# Altium footprint library Package_DFN_QFN_SON.PcbLib: 34 footprints (part 2 of 3)
Each footprint in its own frame and in the unit in brackets; x right, y up, seen from the top. Pads: shape width x height; smd on the part's side, far side on the other; paste and mask are expansions set on the pad; w line width, h text height; cw(c..) or ccw(c..) is an arc to the next point about the centre after c.
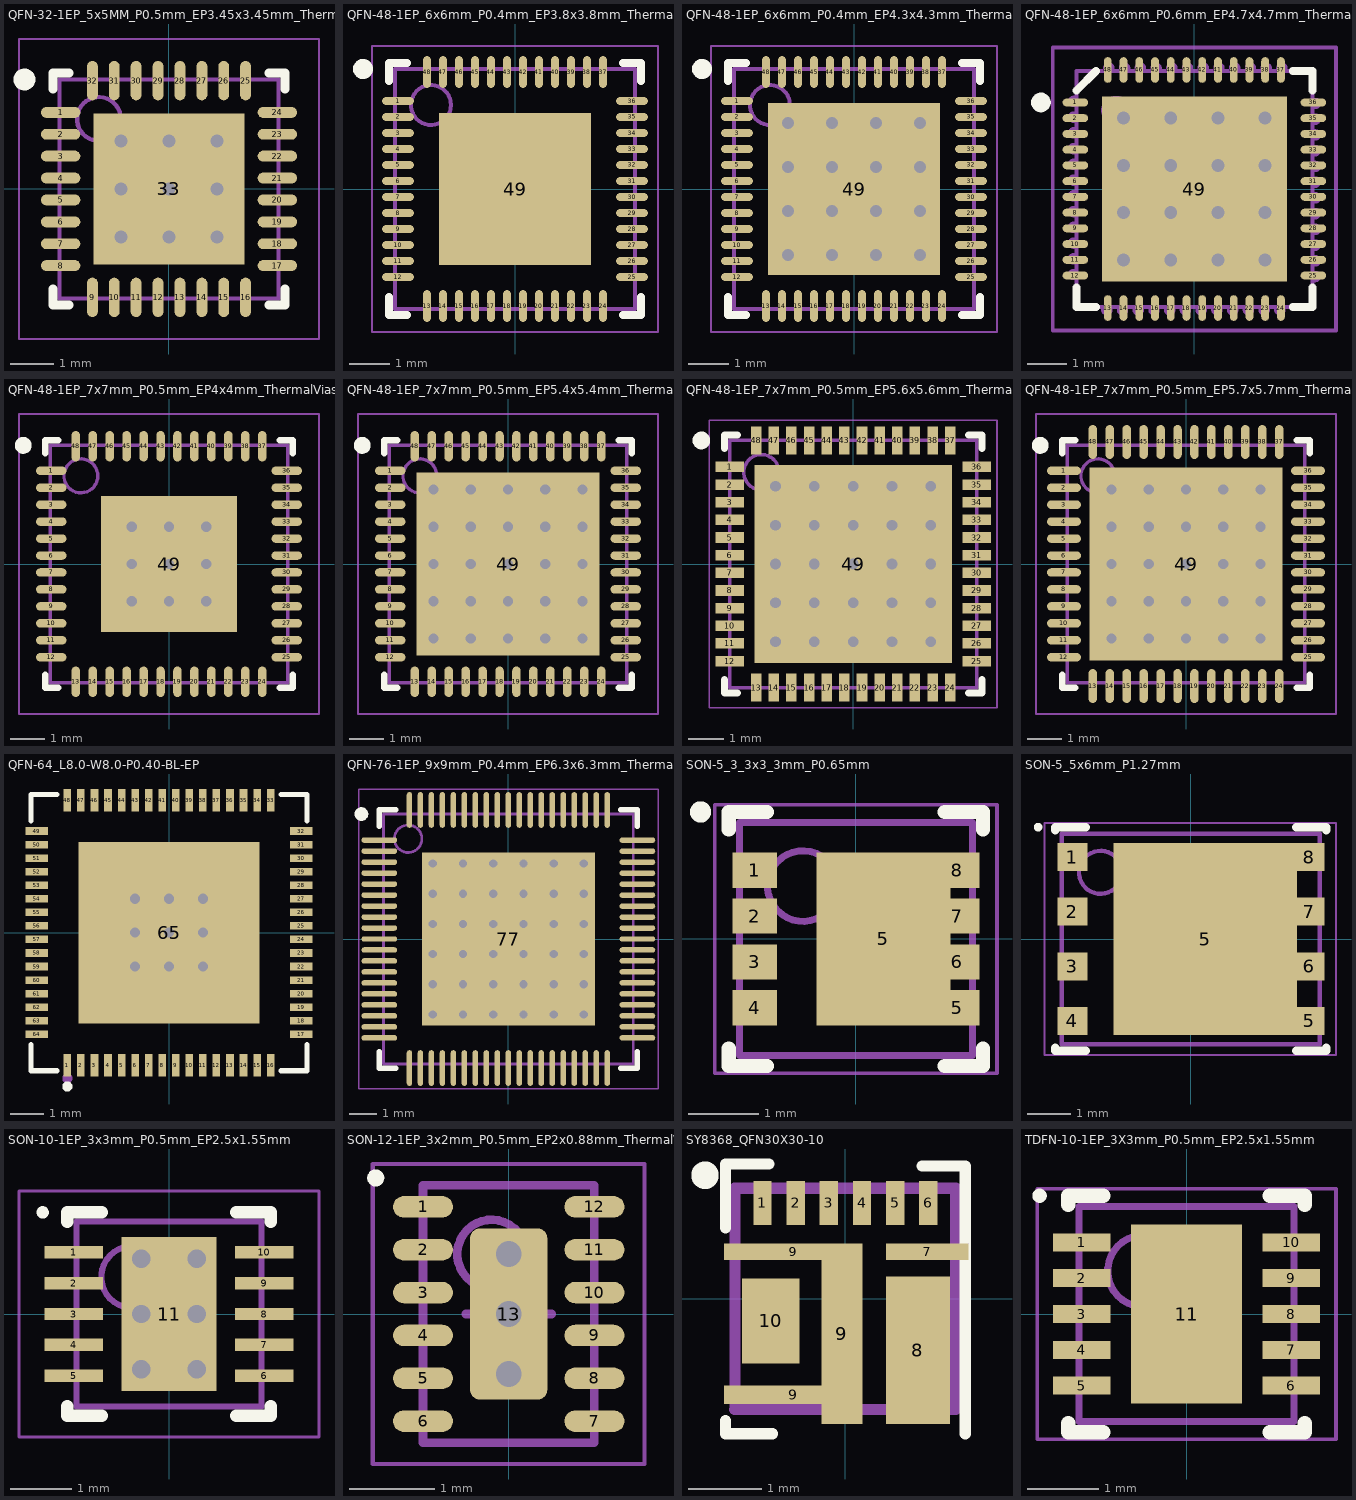
[diagram p1: the footprints below, top view; thin cyan lines are the x and y axes]

## QFN-32-1EP_5x5MM_P0.5mm_EP3.45x3.45mm_ThermalVias [mm] "QFN, 32-Leads, Body 5.00x5.00mm, Pitch 0.50mm, Thermal Pad 3.70x3.70mm, IPC Low Density"
height 0.8
pads (33):
  oval 0.9x0.25 smd: 1(-2.475,1.75) 2(-2.475,1.25) 3(-2.475,0.75) 4(-2.475,0.25) 5(-2.475,-0.25) 6(-2.475,-0.75) 7(-2.475,-1.25) 8(-2.475,-1.75) 17(2.475,-1.75) 18(2.475,-1.25) 19(2.475,-0.75) 20(2.475,-0.25) 21(2.475,0.25) 22(2.475,0.75) 23(2.475,1.25) 24(2.475,1.75)
  oval 0.25x0.9 smd: 9(-1.75,-2.475) 10(-1.25,-2.475) 11(-0.75,-2.475) 12(-0.25,-2.475) 13(0.25,-2.475) 14(0.75,-2.475) 15(1.25,-2.475) 16(1.75,-2.475) 25(1.75,2.475) 26(1.25,2.475) 27(0.75,2.475) 28(0.25,2.475) 29(-0.25,2.475) 30(-0.75,2.475) 31(-1.25,2.475) 32(-1.75,2.475)
  rect 3.45x3.45 smd: 33(0,0)
via -1.1,1.1 diameter 0.5 hole 0.3
via 0,1.1 diameter 0.5 hole 0.3
via 1.1,1.1 diameter 0.5 hole 0.3
via -1.1,0 diameter 0.5 hole 0.3
via 0,0 diameter 0.5 hole 0.3
via 1.1,0 diameter 0.5 hole 0.3
via -1.1,-1.1 diameter 0.5 hole 0.3
via 0,-1.1 diameter 0.5 hole 0.3
via 1.1,-1.1 diameter 0.5 hole 0.3
Top Overlay:
  circle w0.25: c-3.3,2.5 r0.125
  lines w0.2: -2.65,-2.275 -2.65,-2.65 -2.275,-2.65 ; -2.65,2.275 -2.65,2.65 -2.275,2.65 ; 2.275,-2.65 2.65,-2.65 2.65,-2.275 ; 2.275,2.65 2.65,2.65 2.65,2.275
Mechanical 13:
  circle w0.1: c-1.6,1.6 r0.5
  lines w0.1: -2.5,-2.5 -2.5,2.5 2.5,2.5 2.5,-2.5 -2.5,-2.5
Mechanical 15:
  lines w0.05: -3.425,-3.425 -3.425,3.425 3.425,3.425 3.425,-3.425 -3.425,-3.425
  lines w0.1: -0.5,0 0.5,0 ; 0,-0.5 0,0.5
3D body "QFN50P500X500X100_HS-33N.step": height 1, standoff 0, extent -2.55,-2.55 2.55,2.55

## QFN-48-1EP_6x6mm_P0.4mm_EP3.8x3.8mm_ThermalVias [mm] "QFN, 48-Leads, Body 6.00x6.00mm, Pitch 0.40mm, Thermal Pad 3.80x3.80mm, IPC Medium Density"
height 0.94
pads (49):
  oval 0.8x0.2 smd: 1(-2.925,2.2) 2(-2.925,1.8) 3(-2.925,1.4) 4(-2.925,1) 5(-2.925,0.6) 6(-2.925,0.2) 7(-2.925,-0.2) 8(-2.925,-0.6) 9(-2.925,-1) 10(-2.925,-1.4) 11(-2.925,-1.8) 12(-2.925,-2.2) 25(2.925,-2.2) 26(2.925,-1.8) 27(2.925,-1.4) 28(2.925,-1) 29(2.925,-0.6) 30(2.925,-0.2) 31(2.925,0.2) 32(2.925,0.6) 33(2.925,1) 34(2.925,1.4) 35(2.925,1.8) 36(2.925,2.2)
  oval 0.2x0.8 smd: 13(-2.2,-2.925) 14(-1.8,-2.925) 15(-1.4,-2.925) 16(-1,-2.925) 17(-0.6,-2.925) 18(-0.2,-2.925) 19(0.2,-2.925) 20(0.6,-2.925) 21(1,-2.925) 22(1.4,-2.925) 23(1.8,-2.925) 24(2.2,-2.925) 37(2.2,2.925) 38(1.8,2.925) 39(1.4,2.925) 40(1,2.925) 41(0.6,2.925) 42(0.2,2.925) 43(-0.2,2.925) 44(-0.6,2.925) 45(-1,2.925) 46(-1.4,2.925) 47(-1.8,2.925) 48(-2.2,2.925)
  rect 3.8x3.8 smd: 49(0,0)
Top Overlay:
  circle w0.25: c-3.8,3 r0.125
  lines w0.2: -3.15,-2.7 -3.15,-3.15 -2.7,-3.15 ; -3.15,2.7 -3.15,3.15 -2.7,3.15 ; 2.7,-3.15 3.15,-3.15 3.15,-2.7 ; 2.7,3.15 3.15,3.15 3.15,2.7
Mechanical 13:
  circle w0.1: c-2.1,2.1 r0.5
  lines w0.1: -3,-3 -3,3 3,3 3,-3 -3,-3
Mechanical 15:
  lines w0.05: -3.575,-3.575 -3.575,3.575 3.575,3.575 3.575,-3.575 -3.575,-3.575
  lines w0.1: -0.5,0 0.5,0 ; 0,-0.5 0,0.5
3D body "QFN40P600X600X94_HS-49N.step": height 0.94, standoff 0, extent -3.01,-3.01 3.01,3.01

## QFN-48-1EP_6x6mm_P0.4mm_EP4.3x4.3mm_ThermalVias [mm] "QFN, 48-Leads, Body 6.00x6.00mm, Pitch 0.40mm, Thermal Pad 4.30x4.30mm, IPC Medium Density"
height 0.94
pads (49):
  oval 0.8x0.2 smd: 1(-2.925,2.2) 2(-2.925,1.8) 3(-2.925,1.4) 4(-2.925,1) 5(-2.925,0.6) 6(-2.925,0.2) 7(-2.925,-0.2) 8(-2.925,-0.6) 9(-2.925,-1) 10(-2.925,-1.4) 11(-2.925,-1.8) 12(-2.925,-2.2) 25(2.925,-2.2) 26(2.925,-1.8) 27(2.925,-1.4) 28(2.925,-1) 29(2.925,-0.6) 30(2.925,-0.2) 31(2.925,0.2) 32(2.925,0.6) 33(2.925,1) 34(2.925,1.4) 35(2.925,1.8) 36(2.925,2.2)
  oval 0.2x0.8 smd: 13(-2.2,-2.925) 14(-1.8,-2.925) 15(-1.4,-2.925) 16(-1,-2.925) 17(-0.6,-2.925) 18(-0.2,-2.925) 19(0.2,-2.925) 20(0.6,-2.925) 21(1,-2.925) 22(1.4,-2.925) 23(1.8,-2.925) 24(2.2,-2.925) 37(2.2,2.925) 38(1.8,2.925) 39(1.4,2.925) 40(1,2.925) 41(0.6,2.925) 42(0.2,2.925) 43(-0.2,2.925) 44(-0.6,2.925) 45(-1,2.925) 46(-1.4,2.925) 47(-1.8,2.925) 48(-2.2,2.925)
  rect 4.3x4.3 smd: 49(0,0)
via 1.65,0.55 diameter 0.5 hole 0.3
via 0.55,0.55 diameter 0.5 hole 0.3
via -0.55,0.55 diameter 0.5 hole 0.3
via -1.65,0.55 diameter 0.5 hole 0.3
via 1.65,1.65 diameter 0.5 hole 0.3
via 0.55,1.65 diameter 0.5 hole 0.3
via -0.55,1.65 diameter 0.5 hole 0.3
via -1.65,1.65 diameter 0.5 hole 0.3
via 1.65,-1.65 diameter 0.5 hole 0.3
via 0.55,-1.65 diameter 0.5 hole 0.3
via -0.55,-1.65 diameter 0.5 hole 0.3
via -1.65,-1.65 diameter 0.5 hole 0.3
via 1.65,-0.55 diameter 0.5 hole 0.3
via 0.55,-0.55 diameter 0.5 hole 0.3
via -0.55,-0.55 diameter 0.5 hole 0.3
via -1.65,-0.55 diameter 0.5 hole 0.3
Top Overlay:
  circle w0.25: c-3.8,3 r0.125
  lines w0.2: -3.15,-2.7 -3.15,-3.15 -2.7,-3.15 ; -3.15,2.7 -3.15,3.15 -2.7,3.15 ; 2.7,-3.15 3.15,-3.15 3.15,-2.7 ; 2.7,3.15 3.15,3.15 3.15,2.7
Mechanical 13:
  circle w0.1: c-2.1,2.1 r0.5
  lines w0.1: -3,-3 -3,3 3,3 3,-3 -3,-3
Mechanical 15:
  lines w0.05: -3.575,-3.575 -3.575,3.575 3.575,3.575 3.575,-3.575 -3.575,-3.575
  lines w0.1: -0.5,0 0.5,0 ; 0,-0.5 0,0.5
3D body "QFN40P600X600X94_HS-49N.step": height 0.94, standoff 0, extent -3.01,-3.01 3.01,3.01

## QFN-48-1EP_6x6mm_P0.6mm_EP4.7x4.7mm_ThermalVias [mm]
pads (49):
  oval 0.65x0.2 smd mask+0.05: 1(-3.025,2.2) 2(-3.025,1.8) 3(-3.025,1.4) 4(-3.025,1) 5(-3.025,0.6) 6(-3.025,0.2) 7(-3.025,-0.2) 8(-3.025,-0.6) 9(-3.025,-1) 10(-3.025,-1.4) 11(-3.025,-1.8) 12(-3.025,-2.2) 25(3.025,-2.2) 26(3.025,-1.8) 27(3.025,-1.4) 28(3.025,-1) 29(3.025,-0.6) 30(3.025,-0.2) 31(3.025,0.2) 32(3.025,0.6) 33(3.025,1) 34(3.025,1.4) 35(3.025,1.8) 36(3.025,2.2)
  oval 0.2x0.65 smd mask+0.05: 13(-2.2,-3.025) 14(-1.8,-3.025) 15(-1.4,-3.025) 16(-1,-3.025) 17(-0.6,-3.025) 18(-0.2,-3.025) 19(0.2,-3.025) 20(0.6,-3.025) 21(1,-3.025) 22(1.4,-3.025) 23(1.8,-3.025) 24(2.2,-3.025) 37(2.2,3.025) 38(1.8,3.025) 39(1.4,3.025) 40(1,3.025) 41(0.6,3.025) 42(0.2,3.025) 43(-0.2,3.025) 44(-0.6,3.025) 45(-1,3.025) 46(-1.4,3.025) 47(-1.8,3.025) 48(-2.2,3.025)
  rect 4.7x4.7 smd: 49(0,0)
via -1.8,1.8 diameter 0.66 hole 0.33
via -0.6,1.8 diameter 0.66 hole 0.33
via 0.6,1.8 diameter 0.66 hole 0.33
via 1.8,1.8 diameter 0.66 hole 0.33
via -1.8,0.6 diameter 0.66 hole 0.33
via -0.6,0.6 diameter 0.66 hole 0.33
via 0.6,0.6 diameter 0.66 hole 0.33
via 1.8,0.6 diameter 0.66 hole 0.33
via -1.8,-0.6 diameter 0.66 hole 0.33
via -0.6,-0.6 diameter 0.66 hole 0.33
via 0.6,-0.6 diameter 0.66 hole 0.33
via 1.8,-0.6 diameter 0.66 hole 0.33
via -1.8,-1.8 diameter 0.66 hole 0.33
via -0.6,-1.8 diameter 0.66 hole 0.33
via 0.6,-1.8 diameter 0.66 hole 0.33
via 1.8,-1.8 diameter 0.66 hole 0.33
Top Overlay:
  circle w0.25: c-3.9,2.2 r0.125
  lines w0.2: -3,-2.5 -3,-3 -2.5,-3 ; -3,2.5 -2.5,3 ; 2.5,-3 3,-3 3,-2.5 ; 2.5,3 3,3 3,2.5
Mechanical 7:
  circle w0.1: c-2,2 r0.32
  lines w0.1: -3,-2.269 -3.071,-2.269 cw(c-3.071,-2.174) -3.071,-2.079 -3,-2.079 ; -3,-1.869 -3.071,-1.869 cw(c-3.071,-1.774) -3.071,-1.679 -3,-1.679 ; -3,-1.469 -3.071,-1.469 cw(c-3.071,-1.374) -3.071,-1.279 -3,-1.279 ; -3,-1.069 -3.071,-1.069 cw(c-3.071,-0.974) -3.071,-0.879 -3,-0.879 ; -3,-0.669 -3.071,-0.669 cw(c-3.071,-0.574) -3.071,-0.479 -3,-0.479 ; -3,-0.269 -3.071,-0.269 cw(c-3.071,-0.174) -3.071,-0.079 -3,-0.079 ; -3,0.131 -3.071,0.131 cw(c-3.071,0.226) -3.071,0.321 -3,0.321 ; -3,0.531 -3.071,0.531 cw(c-3.071,0.626) -3.071,0.721 -3,0.721 ; -3,0.931 -3.071,0.931 cw(c-3.071,1.026) -3.071,1.121 -3,1.121 ; -3,1.331 -3.071,1.331 cw(c-3.071,1.426) -3.071,1.521 -3,1.521 ; -3,1.731 -3.071,1.731 cw(c-3.071,1.826) -3.071,1.921 -3,1.921 ; -3,2.131 -3.071,2.131 cw(c-3.071,2.226) -3.071,2.321 -3,2.321 ; -2.321,-3 -2.321,-3.071 ccw(c-2.226,-3.071) -2.131,-3.071 -2.131,-3 ; -2.269,3 -2.269,3.071 cw(c-2.174,3.071) -2.079,3.071 -2.079,3 ; -1.921,-3 -1.921,-3.071 ccw(c-1.826,-3.071) -1.731,-3.071 -1.731,-3 ; -1.869,3 -1.869,3.071 cw(c-1.774,3.071) -1.679,3.071 -1.679,3 ; -1.521,-3 -1.521,-3.071 ccw(c-1.426,-3.071) -1.331,-3.071 -1.331,-3 ; -1.469,3 -1.469,3.071 cw(c-1.374,3.071) -1.279,3.071 -1.279,3 ; -1.121,-3 -1.121,-3.071 ccw(c-1.026,-3.071) -0.931,-3.071 -0.931,-3 ; -1.069,3 -1.069,3.071 cw(c-0.974,3.071) -0.879,3.071 -0.879,3 ; -0.721,-3 -0.721,-3.071 ccw(c-0.626,-3.071) -0.531,-3.071 -0.531,-3 ; -0.669,3 -0.669,3.071 cw(c-0.574,3.071) -0.479,3.071 -0.479,3 ; -0.321,-3 -0.321,-3.071 ccw(c-0.226,-3.071) -0.131,-3.071 -0.131,-3 ; -0.269,3 -0.269,3.071 cw(c-0.174,3.071) -0.079,3.071 -0.079,3 ; 0.079,-3 0.079,-3.071 ccw(c0.174,-3.071) 0.269,-3.071 0.269,-3 ; 0.131,3 0.131,3.071 cw(c0.226,3.071) 0.321,3.071 0.321,3 ; 0.479,-3 0.479,-3.071 ccw(c0.574,-3.071) 0.669,-3.071 0.669,-3 ; 0.531,3 0.531,3.071 cw(c0.626,3.071) 0.721,3.071 0.721,3 ; 0.879,-3 0.879,-3.071 ccw(c0.974,-3.071) 1.069,-3.071 1.069,-3 ; 0.931,3 0.931,3.071 cw(c1.026,3.071) 1.121,3.071 1.121,3 ; 1.279,-3 1.279,-3.071 ccw(c1.374,-3.071) 1.469,-3.071 1.469,-3 ; 1.331,3 1.331,3.071 cw(c1.426,3.071) 1.521,3.071 1.521,3 ; 1.679,-3 1.679,-3.071 ccw(c1.774,-3.071) 1.869,-3.071 1.869,-3 ; 1.731,3 1.731,3.071 cw(c1.826,3.071) 1.921,3.071 1.921,3 ; 2.079,-3 2.079,-3.071 ccw(c2.174,-3.071) 2.269,-3.071 2.269,-3 ; 2.131,3 2.131,3.071 cw(c2.226,3.071) 2.321,3.071 2.321,3 ; 3,-2.321 3.071,-2.321 ccw(c3.071,-2.226) 3.071,-2.131 3,-2.131 ; 3,-1.921 3.071,-1.921 ccw(c3.071,-1.826) 3.071,-1.731 3,-1.731 ; 3,-1.521 3.071,-1.521 ccw(c3.071,-1.426) 3.071,-1.331 3,-1.331 ; 3,-1.121 3.071,-1.121 ccw(c3.071,-1.026) 3.071,-0.931 3,-0.931 ; 3,-0.721 3.071,-0.721 ccw(c3.071,-0.626) 3.071,-0.531 3,-0.531 ; 3,-0.321 3.071,-0.321 ccw(c3.071,-0.226) 3.071,-0.131 3,-0.131 ; 3,0.079 3.071,0.079 ccw(c3.071,0.174) 3.071,0.269 3,0.269 ; 3,0.479 3.071,0.479 ccw(c3.071,0.574) 3.071,0.669 3,0.669 ; 3,0.879 3.071,0.879 ccw(c3.071,0.974) 3.071,1.069 3,1.069 ; 3,1.279 3.071,1.279 ccw(c3.071,1.374) 3.071,1.469 3,1.469 ; 3,1.679 3.071,1.679 ccw(c3.071,1.774) 3.071,1.869 3,1.869 ; 3,2.079 3.071,2.079 ccw(c3.071,2.174) 3.071,2.269 3,2.269 ; -3,-3 -3,3 3,3 3,-3 -3,-3
  text ".Designator" at -1.1,-0.2 h0.38
Mechanical 15:
  lines w0.1: -0.5,0 0.5,0 ; 0,-0.5 0,0.5 ; -3.6,-3.6 -3.6,3.6 3.6,3.6 3.6,-3.6 -3.6,-3.6
3D body "User Library-QFN48.step": height 0.86, standoff -0.01, extent -3.02,-3.02 3.02,3.02

## QFN-48-1EP_7x7mm_P0.5mm_EP4x4mm_ThermalVias [mm] "QFN, 48-Leads, Body 7.00x7.00mm, Pitch 0.50mm, Thermal Pad 5.40x5.40mm, IPC Low Density"
height 0.94
pads (49):
  oval 0.9x0.25 smd: 1(-3.475,2.75) 2(-3.475,2.25) 3(-3.475,1.75) 4(-3.475,1.25) 5(-3.475,0.75) 6(-3.475,0.25) 7(-3.475,-0.25) 8(-3.475,-0.75) 9(-3.475,-1.25) 10(-3.475,-1.75) 11(-3.475,-2.25) 12(-3.475,-2.75) 25(3.475,-2.75) 26(3.475,-2.25) 27(3.475,-1.75) 28(3.475,-1.25) 29(3.475,-0.75) 30(3.475,-0.25) 31(3.475,0.25) 32(3.475,0.75) 33(3.475,1.25) 34(3.475,1.75) 35(3.475,2.25) 36(3.475,2.75)
  oval 0.25x0.9 smd: 13(-2.75,-3.475) 14(-2.25,-3.475) 15(-1.75,-3.475) 16(-1.25,-3.475) 17(-0.75,-3.475) 18(-0.25,-3.475) 19(0.25,-3.475) 20(0.75,-3.475) 21(1.25,-3.475) 22(1.75,-3.475) 23(2.25,-3.475) 24(2.75,-3.475) 37(2.75,3.475) 38(2.25,3.475) 39(1.75,3.475) 40(1.25,3.475) 41(0.75,3.475) 42(0.25,3.475) 43(-0.25,3.475) 44(-0.75,3.475) 45(-1.25,3.475) 46(-1.75,3.475) 47(-2.25,3.475) 48(-2.75,3.475)
  rect 4x4 smd: 49(0,0)
via 1.1,-1.1 diameter 0.5 hole 0.3
via 0,-1.1 diameter 0.5 hole 0.3
via -1.1,-1.1 diameter 0.5 hole 0.3
via 1.1,0 diameter 0.5 hole 0.3
via 0,0 diameter 0.5 hole 0.3
via -1.1,0 diameter 0.5 hole 0.3
via 1.1,1.1 diameter 0.5 hole 0.3
via 0,1.1 diameter 0.5 hole 0.3
via -1.1,1.1 diameter 0.5 hole 0.3
Top Overlay:
  circle w0.25: c-4.3,3.5 r0.125
  lines w0.2: -3.65,-3.275 -3.65,-3.65 -3.275,-3.65 ; -3.65,3.275 -3.65,3.65 -3.275,3.65 ; 3.275,-3.65 3.65,-3.65 3.65,-3.275 ; 3.275,3.65 3.65,3.65 3.65,3.275
Mechanical 13:
  circle w0.1: c-2.6,2.6 r0.5
  lines w0.1: -3.5,-3.5 3.5,-3.5 3.5,3.5 -3.5,3.5 -3.5,-3.5
Mechanical 15:
  lines w0.05: -4.425,-4.425 4.425,-4.425 4.425,4.425 -4.425,4.425 -4.425,-4.425
  lines w0.1: -0.5,0 0.5,0 ; 0,-0.5 0,0.5
3D body "QFN50P700X700X94_HS-49M.step": height 0.94, standoff 0, extent -3.51,-3.51 3.51,3.51

## QFN-48-1EP_7x7mm_P0.5mm_EP5.4x5.4mm_ThermalVias [mm] "QFN, 48-Leads, Body 7.00x7.00mm, Pitch 0.50mm, Thermal Pad 5.40x5.40mm, IPC Low Density"
height 0.94
pads (49):
  oval 0.9x0.25 smd: 1(-3.475,2.75) 2(-3.475,2.25) 3(-3.475,1.75) 4(-3.475,1.25) 5(-3.475,0.75) 6(-3.475,0.25) 7(-3.475,-0.25) 8(-3.475,-0.75) 9(-3.475,-1.25) 10(-3.475,-1.75) 11(-3.475,-2.25) 12(-3.475,-2.75) 25(3.475,-2.75) 26(3.475,-2.25) 27(3.475,-1.75) 28(3.475,-1.25) 29(3.475,-0.75) 30(3.475,-0.25) 31(3.475,0.25) 32(3.475,0.75) 33(3.475,1.25) 34(3.475,1.75) 35(3.475,2.25) 36(3.475,2.75)
  oval 0.25x0.9 smd: 13(-2.75,-3.475) 14(-2.25,-3.475) 15(-1.75,-3.475) 16(-1.25,-3.475) 17(-0.75,-3.475) 18(-0.25,-3.475) 19(0.25,-3.475) 20(0.75,-3.475) 21(1.25,-3.475) 22(1.75,-3.475) 23(2.25,-3.475) 24(2.75,-3.475) 37(2.75,3.475) 38(2.25,3.475) 39(1.75,3.475) 40(1.25,3.475) 41(0.75,3.475) 42(0.25,3.475) 43(-0.25,3.475) 44(-0.75,3.475) 45(-1.25,3.475) 46(-1.75,3.475) 47(-2.25,3.475) 48(-2.75,3.475)
  rect 5.4x5.4 smd: 49(0,0)
via 2.2,-2.2 diameter 0.5 hole 0.3
via 1.1,-2.2 diameter 0.5 hole 0.3
via 0,-2.2 diameter 0.5 hole 0.3
via -1.1,-2.2 diameter 0.5 hole 0.3
via -2.2,-2.2 diameter 0.5 hole 0.3
via 2.2,-1.1 diameter 0.5 hole 0.3
via 1.1,-1.1 diameter 0.5 hole 0.3
via 0,-1.1 diameter 0.5 hole 0.3
via -1.1,-1.1 diameter 0.5 hole 0.3
via -2.2,-1.1 diameter 0.5 hole 0.3
via 2.2,0 diameter 0.5 hole 0.3
via 1.1,0 diameter 0.5 hole 0.3
via 0,0 diameter 0.5 hole 0.3
via -1.1,0 diameter 0.5 hole 0.3
via -2.2,0 diameter 0.5 hole 0.3
via 2.2,1.1 diameter 0.5 hole 0.3
via 1.1,1.1 diameter 0.5 hole 0.3
via 0,1.1 diameter 0.5 hole 0.3
via -1.1,1.1 diameter 0.5 hole 0.3
via -2.2,1.1 diameter 0.5 hole 0.3
via 2.2,2.2 diameter 0.5 hole 0.3
via 1.1,2.2 diameter 0.5 hole 0.3
via 0,2.2 diameter 0.5 hole 0.3
via -1.1,2.2 diameter 0.5 hole 0.3
via -2.2,2.2 diameter 0.5 hole 0.3
Top Overlay:
  circle w0.25: c-4.3,3.5 r0.125
  lines w0.2: -3.65,-3.275 -3.65,-3.65 -3.275,-3.65 ; -3.65,3.275 -3.65,3.65 -3.275,3.65 ; 3.275,-3.65 3.65,-3.65 3.65,-3.275 ; 3.275,3.65 3.65,3.65 3.65,3.275
Mechanical 13:
  circle w0.1: c-2.6,2.6 r0.5
  lines w0.1: -3.5,-3.5 3.5,-3.5 3.5,3.5 -3.5,3.5 -3.5,-3.5
Mechanical 15:
  lines w0.05: -4.425,-4.425 4.425,-4.425 4.425,4.425 -4.425,4.425 -4.425,-4.425
  lines w0.1: -0.5,0 0.5,0 ; 0,-0.5 0,0.5
3D body "QFN50P700X700X94_HS-49M.step": height 0.94, standoff 0, extent -3.51,-3.51 3.51,3.51

## QFN-48-1EP_7x7mm_P0.5mm_EP5.6x5.6mm_ThermalVias [mm] "QFN, 48-Leads, Body 7.00x7.00mm, Pitch 0.50mm, Thermal Pad 5.60x5.60mm, IPC Medium Density"
height 0.5
pads (49):
  rect 0.8x0.3 smd: 1(-3.5,2.75) 2(-3.5,2.25) 3(-3.5,1.75) 4(-3.5,1.25) 5(-3.5,0.75) 6(-3.5,0.25) 7(-3.5,-0.25) 8(-3.5,-0.75) 9(-3.5,-1.25) 10(-3.5,-1.75) 11(-3.5,-2.25) 12(-3.5,-2.75) 25(3.5,-2.75) 26(3.5,-2.25) 27(3.5,-1.75) 28(3.5,-1.25) 29(3.5,-0.75) 30(3.5,-0.25) 31(3.5,0.25) 32(3.5,0.75) 33(3.5,1.25) 34(3.5,1.75) 35(3.5,2.25) 36(3.5,2.75)
  rect 0.3x0.8 smd: 13(-2.75,-3.5) 14(-2.25,-3.5) 15(-1.75,-3.5) 16(-1.25,-3.5) 17(-0.75,-3.5) 18(-0.25,-3.5) 19(0.25,-3.5) 20(0.75,-3.5) 21(1.25,-3.5) 22(1.75,-3.5) 23(2.25,-3.5) 24(2.75,-3.5) 37(2.75,3.5) 38(2.25,3.5) 39(1.75,3.5) 40(1.25,3.5) 41(0.75,3.5) 42(0.25,3.5) 43(-0.25,3.5) 44(-0.75,3.5) 45(-1.25,3.5) 46(-1.75,3.5) 47(-2.25,3.5) 48(-2.75,3.5)
  rect 5.6x5.6 smd: 49(0,0)
via -2.2,2.2 diameter 0.5 hole 0.3
via -1.1,2.2 diameter 0.5 hole 0.3
via 0,2.2 diameter 0.5 hole 0.3
via 1.1,2.2 diameter 0.5 hole 0.3
via 2.2,2.2 diameter 0.5 hole 0.3
via -2.2,1.1 diameter 0.5 hole 0.3
via -1.1,1.1 diameter 0.5 hole 0.3
via 0,1.1 diameter 0.5 hole 0.3
via 1.1,1.1 diameter 0.5 hole 0.3
via 2.2,1.1 diameter 0.5 hole 0.3
via -2.2,0 diameter 0.5 hole 0.3
via -1.1,0 diameter 0.5 hole 0.3
via 0,0 diameter 0.5 hole 0.3
via 1.1,0 diameter 0.5 hole 0.3
via 2.2,0 diameter 0.5 hole 0.3
via -2.2,-1.1 diameter 0.5 hole 0.3
via -1.1,-1.1 diameter 0.5 hole 0.3
via 0,-1.1 diameter 0.5 hole 0.3
via 1.1,-1.1 diameter 0.5 hole 0.3
via 2.2,-1.1 diameter 0.5 hole 0.3
via -2.2,-2.2 diameter 0.5 hole 0.3
via -1.1,-2.2 diameter 0.5 hole 0.3
via 0,-2.2 diameter 0.5 hole 0.3
via 1.1,-2.2 diameter 0.5 hole 0.3
via 2.2,-2.2 diameter 0.5 hole 0.3
Top Overlay:
  circle w0.25: c-4.3,3.5 r0.125
  lines w0.2: -3.65,-3.275 -3.65,-3.65 -3.275,-3.65 ; -3.65,3.275 -3.65,3.65 -3.275,3.65 ; 3.275,-3.65 3.65,-3.65 3.65,-3.275 ; 3.275,3.65 3.65,3.65 3.65,3.275
Mechanical 13:
  circle w0.1: c-2.6,2.6 r0.5
  lines w0.1: -3.5,-3.5 -3.5,3.5 3.5,3.5 3.5,-3.5 -3.5,-3.5
Mechanical 15:
  lines w0.05: -4.075,-4.075 -4.075,4.075 4.075,4.075 4.075,-4.075 -4.075,-4.075
  lines w0.1: -0.5,0 0.5,0 ; 0,-0.5 0,0.5
3D body "QFN50P700X700X50_HS-49N.step": height 0.5, standoff 0, extent -3.52,-3.52 3.52,3.52

## QFN-48-1EP_7x7mm_P0.5mm_EP5.7x5.7mm_ThermalVias [mm] "QFN, 48-Leads, Body 7.00x7.00mm, Pitch 0.50mm, Thermal Pad 5.70x5.70mm, IPC Low Density"
height 0.94
pads (49):
  oval 1x0.25 smd: 1(-3.6,2.75) 2(-3.6,2.25) 3(-3.6,1.75) 4(-3.6,1.25) 5(-3.6,0.75) 6(-3.6,0.25) 7(-3.6,-0.25) 8(-3.6,-0.75) 9(-3.6,-1.25) 10(-3.6,-1.75) 11(-3.6,-2.25) 12(-3.6,-2.75) 25(3.6,-2.75) 26(3.6,-2.25) 27(3.6,-1.75) 28(3.6,-1.25) 29(3.6,-0.75) 30(3.6,-0.25) 31(3.6,0.25) 32(3.6,0.75) 33(3.6,1.25) 34(3.6,1.75) 35(3.6,2.25) 36(3.6,2.75)
  oval 0.25x1 smd: 13(-2.75,-3.6) 14(-2.25,-3.6) 15(-1.75,-3.6) 16(-1.25,-3.6) 17(-0.75,-3.6) 18(-0.25,-3.6) 19(0.25,-3.6) 20(0.75,-3.6) 21(1.25,-3.6) 22(1.75,-3.6) 23(2.25,-3.6) 24(2.75,-3.6) 37(2.75,3.6) 38(2.25,3.6) 39(1.75,3.6) 40(1.25,3.6) 41(0.75,3.6) 42(0.25,3.6) 43(-0.25,3.6) 44(-0.75,3.6) 45(-1.25,3.6) 46(-1.75,3.6) 47(-2.25,3.6) 48(-2.75,3.6)
  rect 5.7x5.7 smd: 49(0,0)
via -2.2,2.2 diameter 0.5 hole 0.3
via -1.1,2.2 diameter 0.5 hole 0.3
via 0,2.2 diameter 0.5 hole 0.3
via 1.1,2.2 diameter 0.5 hole 0.3
via 2.2,2.2 diameter 0.5 hole 0.3
via -2.2,1.1 diameter 0.5 hole 0.3
via -1.1,1.1 diameter 0.5 hole 0.3
via 0,1.1 diameter 0.5 hole 0.3
via 1.1,1.1 diameter 0.5 hole 0.3
via 2.2,1.1 diameter 0.5 hole 0.3
via -2.2,0 diameter 0.5 hole 0.3
via -1.1,0 diameter 0.5 hole 0.3
via 0,0 diameter 0.5 hole 0.3
via 1.1,0 diameter 0.5 hole 0.3
via 2.2,0 diameter 0.5 hole 0.3
via -2.2,-1.1 diameter 0.5 hole 0.3
via -1.1,-1.1 diameter 0.5 hole 0.3
via 0,-1.1 diameter 0.5 hole 0.3
via 1.1,-1.1 diameter 0.5 hole 0.3
via 2.2,-1.1 diameter 0.5 hole 0.3
via -2.2,-2.2 diameter 0.5 hole 0.3
via -1.1,-2.2 diameter 0.5 hole 0.3
via 0,-2.2 diameter 0.5 hole 0.3
via 1.1,-2.2 diameter 0.5 hole 0.3
via 2.2,-2.2 diameter 0.5 hole 0.3
Top Overlay:
  circle w0.25: c-4.3,3.5 r0.125
  lines w0.2: -3.65,-3.275 -3.65,-3.65 -3.275,-3.65 ; -3.65,3.275 -3.65,3.65 -3.275,3.65 ; 3.275,-3.65 3.65,-3.65 3.65,-3.275 ; 3.275,3.65 3.65,3.65 3.65,3.275
Mechanical 13:
  circle w0.1: c-2.6,2.6 r0.5
  lines w0.1: -3.5,-3.5 -3.5,3.5 3.5,3.5 3.5,-3.5 -3.5,-3.5
Mechanical 15:
  lines w0.05: -4.425,-4.425 -4.425,4.425 4.425,4.425 4.425,-4.425 -4.425,-4.425
  lines w0.1: -0.5,0 0.5,0 ; 0,-0.5 0,0.5
3D body "QFN50P700X700X94_HS-49M.step": height 0.94, standoff 0, extent -3.51,-3.51 3.51,3.51

## QFN-64_L8.0-W8.0-P0.40-BL-EP [mm]
pads (65):
  rect 0.224x0.665 smd: 1(-3,-3.908) 2(-2.6,-3.908) 3(-2.2,-3.908) 4(-1.8,-3.908) 5(-1.4,-3.908) 6(-1,-3.908) 7(-0.6,-3.908) 8(-0.2,-3.908) 9(0.2,-3.908) 10(0.6,-3.908) 11(1,-3.908) 12(1.4,-3.908) 13(1.8,-3.908) 14(2.2,-3.908) 15(2.6,-3.908) 16(3,-3.908) 33(3,3.908) 34(2.6,3.908) 35(2.2,3.908) 36(1.8,3.908) 37(1.4,3.908) 38(1,3.908) 39(0.6,3.908) 40(0.2,3.908) 41(-0.2,3.908) 42(-0.6,3.908) 43(-1,3.908) 44(-1.4,3.908) 45(-1.8,3.908) 46(-2.2,3.908) 47(-2.6,3.908) 48(-3,3.908)
  rect 0.665x0.224 smd: 17(3.908,-3) 18(3.908,-2.6) 19(3.908,-2.2) 20(3.908,-1.8) 21(3.908,-1.4) 22(3.908,-1) 23(3.908,-0.6) 24(3.908,-0.2) 25(3.908,0.2) 26(3.908,0.6) 27(3.908,1) 28(3.908,1.4) 29(3.908,1.8) 30(3.908,2.2) 31(3.908,2.6) 32(3.908,3) 49(-3.908,3) 50(-3.908,2.6) 51(-3.908,2.2) 52(-3.908,1.8) 53(-3.908,1.4) 54(-3.908,1) 55(-3.908,0.6) 56(-3.908,0.2) 57(-3.908,-0.2) 58(-3.908,-0.6) 59(-3.908,-1) 60(-3.908,-1.4) 61(-3.908,-1.8) 62(-3.908,-2.2) 63(-3.908,-2.6) 64(-3.908,-3)
  rect 5.35x5.35 smd: 65(0,0)
via 0,0 diameter 0.5 hole 0.3
via 1,0 diameter 0.5 hole 0.3
via 0,1 diameter 0.5 hole 0.3
via 1,1 diameter 0.5 hole 0.3
via 1,-1 diameter 0.5 hole 0.3
via 0,-1 diameter 0.5 hole 0.3
via -1,0 diameter 0.5 hole 0.3
via -1,1 diameter 0.5 hole 0.3
via -1,-1 diameter 0.5 hole 0.3
Top Overlay:
  circle w0.15: c-3,-4.54 r0.075
  lines w0.152: -4.076,-3.303 -4.076,-4.076 -3.303,-4.076 ; -4.076,3.303 -4.076,4.076 -3.303,4.076 ; 3.303,-4.076 4.076,-4.076 4.076,-3.303 ; 3.303,4.076 4.076,4.076 4.076,3.303
Mechanical 15:
  circle w0.15: c-3,-4.3 r0.075

## QFN-76-1EP_9x9mm_P0.4mm_EP6.3x6.3mm_ThermalVias [mm] "QFN, 76-Leads, Body 9.00x9.00mm, Pitch 0.40mm, Thermal Pad 6.30x6.30mm, IPC Low Density"
height 0.86
pads (77):
  oval 1.3x0.2 smd: 1(-4.7,3.6) 2(-4.7,3.2) 3(-4.7,2.8) 4(-4.7,2.4) 5(-4.7,2) 6(-4.7,1.6) 7(-4.7,1.2) 8(-4.7,0.8) 9(-4.7,0.4) 10(-4.7,0) 11(-4.7,-0.4) 12(-4.7,-0.8) 13(-4.7,-1.2) 14(-4.7,-1.6) 15(-4.7,-2) 16(-4.7,-2.4) 17(-4.7,-2.8) 18(-4.7,-3.2) 19(-4.7,-3.6) 39(4.7,-3.6) 40(4.7,-3.2) 41(4.7,-2.8) 42(4.7,-2.4) 43(4.7,-2) 44(4.7,-1.6) 45(4.7,-1.2) 46(4.7,-0.8) 47(4.7,-0.4) 48(4.7,0) 49(4.7,0.4) 50(4.7,0.8) 51(4.7,1.2) 52(4.7,1.6) 53(4.7,2) 54(4.7,2.4) 55(4.7,2.8) 56(4.7,3.2) 57(4.7,3.6)
  oval 0.2x1.3 smd: 20(-3.6,-4.7) 21(-3.2,-4.7) 22(-2.8,-4.7) 23(-2.4,-4.7) 24(-2,-4.7) 25(-1.6,-4.7) 26(-1.2,-4.7) 27(-0.8,-4.7) 28(-0.4,-4.7) 29(0,-4.7) 30(0.4,-4.7) 31(0.8,-4.7) 32(1.2,-4.7) 33(1.6,-4.7) 34(2,-4.7) 35(2.4,-4.7) 36(2.8,-4.7) 37(3.2,-4.7) 38(3.6,-4.7) 58(3.6,4.7) 59(3.2,4.7) 60(2.8,4.7) 61(2.4,4.7) 62(2,4.7) 63(1.6,4.7) 64(1.2,4.7) 65(0.8,4.7) 66(0.4,4.7) 67(0,4.7) 68(-0.4,4.7) 69(-0.8,4.7) 70(-1.2,4.7) 71(-1.6,4.7) 72(-2,4.7) 73(-2.4,4.7) 74(-2.8,4.7) 75(-3.2,4.7) 76(-3.6,4.7)
  rect 6.3x6.3 smd: 77(0,0)
via -2.75,2.75 diameter 0.5 hole 0.3
via -1.65,2.75 diameter 0.5 hole 0.3
via -0.55,2.75 diameter 0.5 hole 0.3
via 0.55,2.75 diameter 0.5 hole 0.3
via 1.65,2.75 diameter 0.5 hole 0.3
via 2.75,2.75 diameter 0.5 hole 0.3
via -2.75,1.65 diameter 0.5 hole 0.3
via -1.65,1.65 diameter 0.5 hole 0.3
via -0.55,1.65 diameter 0.5 hole 0.3
via 0.55,1.65 diameter 0.5 hole 0.3
via 1.65,1.65 diameter 0.5 hole 0.3
via 2.75,1.65 diameter 0.5 hole 0.3
via -2.75,0.55 diameter 0.5 hole 0.3
via -1.65,0.55 diameter 0.5 hole 0.3
via -0.55,0.55 diameter 0.5 hole 0.3
via 0.55,0.55 diameter 0.5 hole 0.3
via 1.65,0.55 diameter 0.5 hole 0.3
via 2.75,0.55 diameter 0.5 hole 0.3
via -2.75,-0.55 diameter 0.5 hole 0.3
via -1.65,-0.55 diameter 0.5 hole 0.3
via -0.55,-0.55 diameter 0.5 hole 0.3
via 0.55,-0.55 diameter 0.5 hole 0.3
via 1.65,-0.55 diameter 0.5 hole 0.3
via 2.75,-0.55 diameter 0.5 hole 0.3
via -2.75,-1.65 diameter 0.5 hole 0.3
via -1.65,-1.65 diameter 0.5 hole 0.3
via -0.55,-1.65 diameter 0.5 hole 0.3
via 0.55,-1.65 diameter 0.5 hole 0.3
via 1.65,-1.65 diameter 0.5 hole 0.3
via 2.75,-1.65 diameter 0.5 hole 0.3
via -2.75,-2.75 diameter 0.5 hole 0.3
via -1.65,-2.75 diameter 0.5 hole 0.3
via -0.55,-2.75 diameter 0.5 hole 0.3
via 0.55,-2.75 diameter 0.5 hole 0.3
via 1.65,-2.75 diameter 0.5 hole 0.3
via 2.75,-2.75 diameter 0.5 hole 0.3
Top Overlay:
  circle w0.25: c-5.35,4.55 r0.125
  lines w0.2: -4.7,-4.1 -4.7,-4.7 -4.1,-4.7 ; -4.7,4.1 -4.7,4.7 -4.1,4.7 ; 4.1,-4.7 4.7,-4.7 4.7,-4.1 ; 4.1,4.7 4.7,4.7 4.7,4.1
Mechanical 13:
  circle w0.1: c-3.65,3.65 r0.5
  lines w0.1: -4.55,-4.55 -4.55,4.55 4.55,4.55 4.55,-4.55 -4.55,-4.55
Mechanical 15:
  lines w0.05: -5.45,-5.45 -5.45,5.45 5.45,5.45 5.45,-5.45 -5.45,-5.45
  lines w0.1: -0.5,0 0.5,0 ; 0,-0.5 0,0.5
3D body "QFN40P900X900X86_HS-77M.step": height 0.86, standoff 0, extent -4.57,-4.57 4.57,4.57

## SON-5_3_3x3_3mm_P0.65mm [mm] "SON, 8-Leads, Body 3.30x3.30mm, Pitch 0.65mm, Thermal Pad 2.50x1.55mm, IPC Medium Density"
height 1
pads (9):
  rect 0.63x0.5 smd: 1(-1.435,0.975) 2(-1.435,0.325) 3(-1.435,-0.325) 4(-1.435,-0.975) 5(1.435,-0.975) 6(1.435,-0.325) 7(1.435,0.325) 8(1.435,0.975)
  rect 1.9x2.45 smd: 5(0.39,0)
Top Overlay:
  circle w0.2: c-2.2,1.8 r0.05
  lines w0.2: -1.8,-1.55 -1.8,-1.8 -1.26,-1.8 ; -1.8,1.55 -1.8,1.8 -1.26,1.8 ; 1.26,-1.8 1.8,-1.8 1.8,-1.55 ; 1.26,1.8 1.8,1.8 1.8,1.55
Mechanical 13:
  circle w0.1: c-0.75,0.75 r0.5
  lines w0.1: -1.65,-1.65 1.65,-1.65 1.65,1.65 -1.65,1.65 -1.65,-1.65
Mechanical 15:
  lines w0.05: -2,-1.9 2,-1.9 2,1.9 -2,1.9 -2,-1.9
  lines w0.1: -0.5,0 0.5,0 ; 0,-0.5 0,0.5
3D body "SON65P330X100_HS-9N.step": height 1, standoff 0, extent -1.651,-1.65 1.651,1.65

## SON-5_5x6mm_P1.27mm [mm] "SON, 8-Leads, Body 4.90x6.00mm, Pitch 1.27mm, Thermal Pad 2.50x1.55mm, IPC Medium Density"
height 1
pads (9):
  rect 0.7x0.65 smd: 1(-2.752,1.905) 2(-2.752,0.635) 3(-2.752,-0.635) 4(-2.752,-1.905) 5(2.752,-1.905) 6(2.752,-0.635) 7(2.752,0.635) 8(2.752,1.905)
  rect 4.27x4.46 smd: 5(0.337,0)
Top Overlay:
  circle w0.1: c-3.55,2.6 r0.05
  lines w0.2: -3.15,-2.53 -3.15,-2.6 -2.45,-2.6 ; -3.15,2.53 -3.15,2.6 -2.45,2.6 ; 2.45,-2.6 3.15,-2.6 3.15,-2.53 ; 2.45,2.6 3.15,2.6 3.15,2.53
Mechanical 13:
  circle w0.1: c-2.1,1.55 r0.5
  lines w0.1: -3,-2.45 -3,2.45 3,2.45 3,-2.45 -3,-2.45
Mechanical 15:
  lines w0.05: -3.4,-2.7 -3.4,2.7 3.375,2.7 3.375,-2.7 -3.4,-2.7
  lines w0.1: -0.5,0 0.5,0 ; 0,-0.5 0,0.5
3D body "SON127P600X100_HS-9N.step": height 1, standoff 0, extent -3.001,-2.45 3.001,2.45

## SON-10-1EP_3x3mm_P0.5mm_EP2.5x1.55mm [mm] "SON, 10-Leads, Body 3.00x3.00mm, Pitch 0.50mm, Thermal Pad 2.50x1.55mm, IPC Low Density"
height 0.75
pads (11):
  rect 0.95x0.2 smd: 1(-1.55,1) 2(-1.55,0.5) 3(-1.55,0) 4(-1.55,-0.5) 5(-1.55,-1) 6(1.55,-1) 7(1.55,-0.5) 8(1.55,0) 9(1.55,0.5) 10(1.55,1)
  rect 1.55x2.5 smd: 11(0,0)
via 0.45,0.9 diameter 0.5 hole 0.3
via -0.45,0.9 diameter 0.5 hole 0.3
via 0.45,-0.9 diameter 0.5 hole 0.3
via 0.45,0 diameter 0.5 hole 0.3
via -0.45,-0.9 diameter 0.5 hole 0.3
via -0.45,0 diameter 0.5 hole 0.3
Top Overlay:
  circle w0.1: c-2.05,1.65 r0.05
  lines w0.2: -1.65,-1.5 -1.65,-1.65 -1.09,-1.65 ; -1.65,1.5 -1.65,1.65 -1.09,1.65 ; 1.09,-1.65 1.65,-1.65 1.65,-1.5 ; 1.09,1.65 1.65,1.65 1.65,1.5
Mechanical 13:
  circle w0.1: c-0.6,0.6 r0.5
  lines w0.1: -1.5,-1.5 -1.5,1.5 1.5,1.5 1.5,-1.5 -1.5,-1.5
Mechanical 15:
  lines w0.05: -2.435,-2 -2.435,2 2.435,2 2.435,-2 -2.435,-2
  lines w0.1: -0.5,0 0.5,0 ; 0,-0.5 0,0.5
3D body "SON50P300X75_HS-11M.step": height 0.75, standoff 0, extent -1.501,-1.5 1.501,1.5

## SON-12-1EP_3x2mm_P0.5mm_EP2x0.88mm_ThermalVias [mm] "SON, 12-Leads, Body 3.00x2.00mm, Pitch 0.50mm, Thermal Pad 2.00x0.88mm, IPC Medium Density"
height 0.8
pads (13):
  oval 0.7x0.25 smd mask+0.07: 1(-1,1.25) 2(-1,0.75) 3(-1,0.25) 4(-1,-0.25) 5(-1,-0.75) 6(-1,-1.25) 7(1,-1.25) 8(1,-0.75) 9(1,-0.25) 10(1,0.25) 11(1,0.75) 12(1,1.25)
  rrect25% 0.9x2 smd mask+0.07: 13(0,0)
via 0,-0.7 diameter 0.5 hole 0.3
via 0,0.7 diameter 0.5 hole 0.3
via 0,0 diameter 0.5 hole 0.3
Top Overlay:
  circle w0.1: c-1.552,1.587 r0.05
Mechanical 13:
  circle w0.1: c-0.2,0.7 r0.4
  lines w0.1: -1,-1.5 1,-1.5 1,1.5 -1,1.5 -1,-1.5
Mechanical 15:
  lines w0.05: -1.585,-1.75 1.585,-1.75 1.585,1.75 -1.585,1.75 -1.585,-1.75
  lines w0.1: -0.5,0 0.5,0 ; 0,-0.5 0,0.5
3D body "SON50P200X80_HS-13N.step": height 0.8, standoff 0, extent -1,-1.5 1,1.5

## SY8368_QFN30X30-10 [mm]
pads (12):
  rect 0.25x0.6 smd: 1(-1.125,1.3) 2(-0.675,1.3) 3(-0.225,1.3) 4(0.225,1.3) 5(0.675,1.3) 6(1.125,1.3)
  rect 1.12x0.225 smd: 7(1.11,0.638)
  rect 0.87x2 smd: 8(0.983,-0.7)
  rect 1.88x0.25 smd: 9(-0.71,-1.3)
  rect 1.88x0.225 smd: 9(-0.71,0.638)
  rect 0.555x2.45 smd: 9(-0.047,-0.475)
  rect 0.775x1.15 smd: 10(-1.012,-0.3)
Top Overlay:
  circle w0.3: c-1.905,1.676 r0.036
  lines w0.152: -1.626,-1.651 -1.626,-1.829 -0.991,-1.829 ; -1.626,0.965 -1.626,1.803 ; -1.626,1.829 -1.041,1.829 ; 1.041,1.803 1.626,1.803 1.626,-1.829
Mechanical 7:
  lines w0.152: -1.5,-1.5 1.5,-1.5 ; -1.5,1.5 1.5,1.5 ; -1.497,-1.5 -1.497,1.5 ; 1.497,-1.5 1.497,1.5
3D body: height 0.6, standoff 0, extent -1.5,-1.5 1.5,1.5

## TDFN-10-1EP_3X3mm_P0.5mm_EP2.5x1.55mm [mm] "SON, 10-Leads, Body 3.00x3.00mm, Pitch 0.50mm, Thermal Pad 2.50x1.55mm, IPC Medium Density"
height 0.8
pads (11):
  rect 0.8x0.25 smd: 1(-1.46,1) 2(-1.46,0.5) 3(-1.46,0) 4(-1.46,-0.5) 5(-1.46,-1) 6(1.46,-1) 7(1.46,-0.5) 8(1.46,0) 9(1.46,0.5) 10(1.46,1)
  rect 1.55x2.5 smd: 11(0,0)
Top Overlay:
  circle w0.1: c-2.05,1.65 r0.05
  lines w0.2: -1.65,-1.525 -1.65,-1.65 -1.16,-1.65 ; -1.65,1.525 -1.65,1.65 -1.16,1.65 ; 1.16,-1.65 1.65,-1.65 1.65,-1.525 ; 1.16,1.65 1.65,1.65 1.65,1.525
Mechanical 13:
  circle w0.1: c-0.6,0.6 r0.5
  lines w0.1: -1.5,-1.5 1.5,-1.5 1.5,1.5 -1.5,1.5 -1.5,-1.5
Mechanical 15:
  lines w0.05: -2.085,-1.75 2.085,-1.75 2.085,1.75 -2.085,1.75 -2.085,-1.75
  lines w0.1: -0.5,0 0.5,0 ; 0,-0.5 0,0.5
3D body "SON50P300X80_HS-11N.step": height 0.8, standoff 0, extent -1.58,-1.5 1.58,1.5